# EAGLE library part RLM-33 (library rf-jqi)
Limiter, 12 dBm out
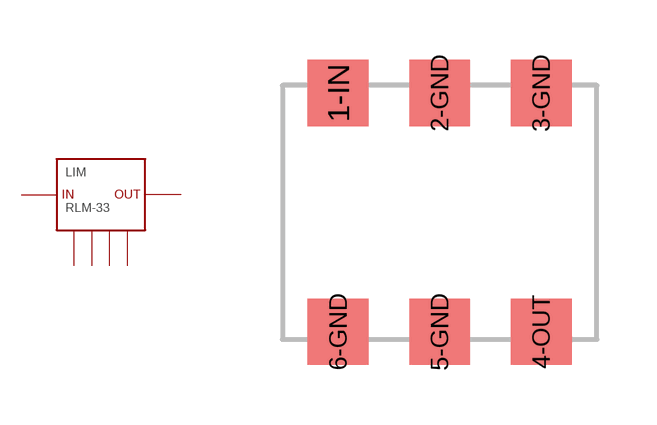
[diagram p9: symbol with the pads of TT1224; footprint TT1224]

Designator prefix LIM

## RLM-33  [TT1224]
1-IN  1-IN  in
2-GND  2-GND  sup
3-GND  3-GND  sup
4-OUT  4-OUT  out
5-GND  5-GND  sup
6-GND  6-GND  sup

## Footprint TT1224 (pad centres in mm)
smd 1.524 x 1.651: 1-IN 1.397,6.16; 2-GND 3.937,6.16; 3-GND 6.477,6.16; 4-OUT 6.477,0.191; 5-GND 3.937,0.191; 6-GND 1.397,0.191